# Altium schematic symbol library Header 2X40.Schlib: 1 symbol
Pins are listed as number, name and electrical type; pins without a type are passive.

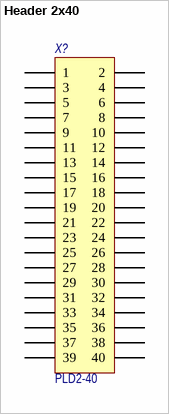
[diagram p0: symbol Header 2x40]

## Header 2x40
designator X?, comment Наименование: PLD2-40  (hidden comment: Header 2X40)
Header, 40-Pin, Dual row; Потребление, Вт: 0,0; Назначение: Header, 40-Pin, Dual row
footprint PLD2-40
pins: 1, 2, 3, 4, 5, 6, 7, 8, 9, 10, 11, 12, 13, 14, 15, 16, 17, 18, 19, 20, 21, 22, 23, 24, 25, 26, 27, 28, 29, 30, 31, 32, 33, 34, 35, 36, 37, 38, 39, 40